# Altium footprint library Fuses.PcbLib: 86 footprints (part 2 of 6)
Each footprint in its own frame and in the unit in brackets; x right, y up, seen from the top. Pads: shape width x height; smd on the part's side, far side on the other; paste and mask are expansions set on the pad; w line width, h text height; cw(c..) or ccw(c..) is an arc to the next point about the centre after c.
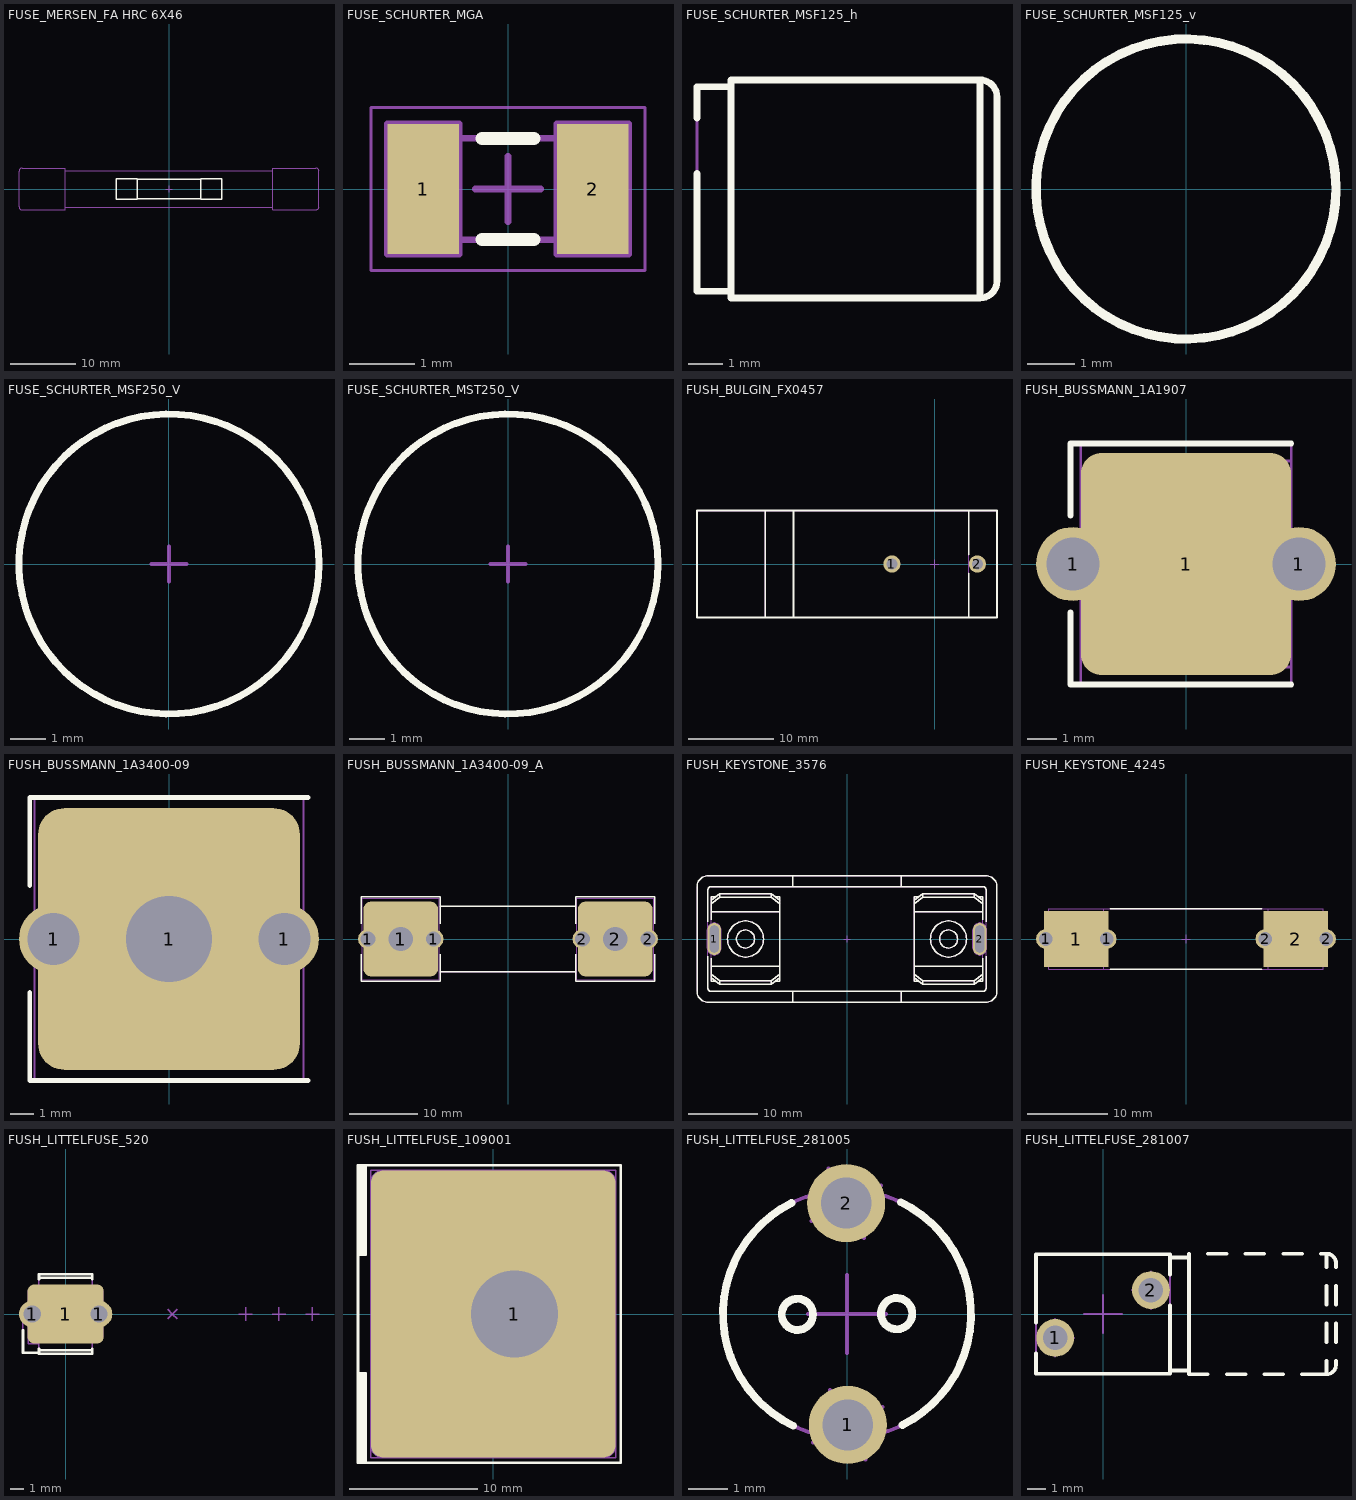
[diagram p1: the footprints below, top view; thin cyan lines are the x and y axes]

## FUSE_MERSEN_FA HRC 6X46 [mm] "6.3x46mm Cylindrical Fuse, FA HRC Series"
height 6.45
Top Overlay:
  lines w0.2: -4.85,-1.475 4.85,-1.475 ; -4.85,1.475 4.85,1.475 ; -8,-1.575 -4.85,-1.575 -4.85,1.575 -8,1.575 -8,-1.575 ; 4.85,-1.575 8,-1.575 8,1.575 4.85,1.575 4.85,-1.575
Mechanical 8:
  lines w0.1: 0,0 -0.5,0 0,0 ; 0,0 0,0.5 0,0 ; 0,0 0.5,0 0,0 ; 0,0 0,-0.5 0,0
Mechanical 14:
  lines w0.1: -15.8,-2.75 15.8,-2.75 ; -15.8,2.75 15.8,2.75 ; -22.8,-2.675 ccw(c-22.3,-2.675) -22.3,-3.175 -15.8,-3.175 -15.8,3.175 -22.3,3.175 ccw(c-22.3,2.675) -22.8,2.675 -22.8,-2.675 ; 15.8,-3.175 22.3,-3.175 ccw(c22.3,-2.675) 22.8,-2.675 22.8,2.675 ccw(c22.3,2.675) 22.3,3.175 15.8,3.175 15.8,-3.175
3D body "FUSE_MERSEN_FA HRC 6X46.stp": height 6.35, standoff 0, extent -22.8,-3.175 22.8,3.175

## FUSE_SCHURTER_MGA [mm] "SHURTER MGA Series, Body 3.2x1.55mm"
height 1.55
pads (2):
  rect 1.1x2 smd: 1(-1.3,0) 2(1.3,0)
Top Overlay:
  lines w0.2: -0.4,-0.775 0.4,-0.775 ; -0.4,0.775 0.4,0.775
Mechanical 8:
  lines w0.1: -1.8,0 -1.3,0 ; -1.3,-0.5 -1.3,0 ; -1.3,0.5 -1.3,0 ; -0.8,0 -1.3,0 ; -0.5,0 0,0 ; 0,-0.5 0,0 ; 0,0.5 0,0 ; 0.5,0 0,0 ; 0.8,0 1.3,0 ; 1.3,-0.5 1.3,0 ; 1.3,0.5 1.3,0 ; 1.8,0 1.3,0 ; -1.85,-1 -0.75,-1 -0.75,1 -1.85,1 -1.85,-1 ; 0.75,-1 1.85,-1 1.85,1 0.75,1 0.75,-1
Mechanical 14:
  lines w0.1: -1.1,-0.775 -1.1,0.775 ; 1.1,-0.775 1.1,0.775 ; -1.6,-0.775 1.6,-0.775 1.6,0.775 -1.6,0.775 -1.6,-0.775
Mechanical 15:
  lines w0.05: -2.1,-1.25 -2.1,1.25 2.1,1.25 2.1,-1.25 -2.1,-1.25
3D body "FUSE_SCHURTER_MGA.stp": height 1.55, standoff 0, extent -1.6,-0.775 1.6,0.775

## FUSE_SCHURTER_MSF125_h [mm] "SHURTER MSF 125 Series, Subminiature Fuse, 6.4 mm Diameter  x 8.8mm Height (Horizontal Mount)"
height 6.6
Top Overlay:
  lines w0.2: 3.556,0.459 3.556,-3 4.556,-3 ; 3.556,2.081 3.556,3 4.556,3 ; 11.856,-3.2 ccw(c11.856,-2.7) 12.356,-2.7 12.356,2.7 ccw(c11.856,2.7) 11.856,3.2 ; 11.856,-3.2 4.556,-3.2 4.556,3.2 11.856,3.2 ; 11.856,-3.2 11.856,3.2
Mechanical 14:
  lines w0.1: 4.556,-3 3.556,-3 3.556,3 4.556,3 ; 11.556,3.2 11.856,3.2 ; 11.856,-3.2 ccw(c11.856,-2.7) 12.356,-2.7 12.356,2.7 ccw(c11.856,2.7) 11.856,3.2 ; 11.856,-3.2 4.556,-3.2 4.556,3.2 11.856,3.2 ; 11.856,-3.2 11.856,3.2
3D body "FUSE_SCHURTER_MSF125_h.stp": height 6.63, standoff 0.23, extent -0.744,-3.2 12.356,3.2

## FUSE_SCHURTER_MSF125_v [mm] "SHURTER MSF 125 Series, Subminiature Fuse, 6.4 mm Diameter  x 8.8mm Height"
height 8.8
Top Overlay:
  circle w0.2: c0,0 r3.2
Mechanical 14:
  circle w0.1: c0,0 r3.2
3D body "FUSE_SCHURTER_MSF125_v.stp": height 15.45, standoff 2.35, extent -3.2,-3.2 3.2,3.2

## FUSE_SCHURTER_MSF250_V [mm] "Subminiature Fuse, Pitch 5.08mm, 8.5 mm Diameter  x 8.5mm Height, MSF 250 Series"
height 8.5
Top Overlay:
  circle w0.2: c0,0 r4.25
Mechanical 8:
  lines w0.1: -0.5,0 0,0 ; 0,-0.5 0,0 ; 0,0.5 0,0 ; 0.5,0 0,0
Mechanical 14:
  circle w0.1: c0,0 r4.25
3D body "FUSE_SCHURTER_MSF250.stp": height 12.85, standoff 0.9, extent -4.25,-4.25 4.25,4.25

## FUSE_SCHURTER_MST250_V [mm] "SHURTER MST 250 Series, Subminiature Fuse, 8.5mm Diameter x 8.5mm Height"
height 8.5
Top Overlay:
  circle w0.2: c0,0 r4.25
Mechanical 8:
  lines w0.1: -0.5,0 0,0 ; 0,-0.5 0,0 ; 0,0.5 0,0 ; 0.5,0 0,0
Mechanical 14:
  circle w0.1: c0,0 r4.25
3D body "FUSE_SCHURTER_MST250_v.stp": height 12.9, standoff 1.4, extent -4.25,-4.25 4.25,4.25

## FUSH_BULGIN_FX0457 [mm] "Horizontal Fuse Holder for 5x20mm Fuses, Body 35.1 x 12.5mm"
height 12.5
pads (2):
  round 2 hole 1.3: 1(-5,0) 2(5,0)
Top Overlay:
  lines w0.2: -19.8,-6.25 -19.8,6.25 ; -16.5,-6.25 -16.5,6.25 ; 4,-6.25 4,-1.118 ; 4,1.118 4,6.25 ; -27.8,-6.25 7.3,-6.25 7.3,6.25 -27.8,6.25 -27.8,-6.25
Mechanical 8:
  lines w0.1: -5.5,0 -5,0 ; -5,-0.5 -5,0 ; -5,0.5 -5,0 ; -4.5,0 -5,0 ; -0.5,0 0,0 ; 0,-0.5 0,0 ; 0,0.5 0,0 ; 0.5,0 0,0 ; 4.5,0 5,0 ; 5,-0.5 5,0 ; 5,0.5 5,0 ; 5.5,0 5,0
Mechanical 14:
  lines w0.1: -19.8,-6.25 -19.8,6.25 ; -16.5,-6.25 -16.5,6.25 ; 4,-6.25 4,6.25 ; -27.8,-6.25 7.3,-6.25 7.3,6.25 -27.8,6.25 -27.8,-6.25
3D body "FUSH_BULGIN_FX0457.stp": height 12.5, standoff -3.5, extent -27.8,-6.25 7.3,6.25

## FUSH_BUSSMANN_1A1907 [mm] "BUSSMANN 1A1907, Fuse Clip for 1/4\" (6.35)mm Diameter Fuses"
height 10.4
pads (3):
  round 2.5 hole 1.8: 1(-3.81,0) 1(3.81,0)
  rrect20% 7.1x7.5 smd: 1(0,0)
Top Overlay:
  lines w0.2: -3.9,-1.629 -3.9,-4.065 3.55,-4.065 ; -3.9,1.629 -3.9,4.065 3.55,4.065
Mechanical 8:
  lines w0.1: -4.31,0 -3.81,0 ; -3.81,-0.5 -3.81,0 ; -3.81,0.5 -3.81,0 ; -3.31,0 -3.81,0 ; -0.5,0 0,0 ; 0,-0.5 0,0 ; 0,0.5 0,0 ; 0.5,0 0,0 ; 3.31,0 3.81,0 ; 3.81,-0.5 3.81,0 ; 3.81,0.5 3.81,0 ; 4.31,0 3.81,0
Mechanical 14:
  circle w0.1: c0,0 r1.3
  lines w0.1: -3.55,-2.921 3.55,-2.921 ; -3.55,-2.645 3.55,-2.645 ; -3.55,-1.156 -2.65,-1.156 -2.65,-2.132 3.55,-2.132 ; -3.55,1.156 -2.65,1.156 -2.65,2.131 3.55,2.132 ; -3.55,2.377 -3.55,2.383 ; -3.55,2.645 3.55,2.645 ; -3.55,2.921 3.55,2.921 ; -2.65,-2.921 -2.65,-3.474 3.55,-3.474 ; -2.65,2.921 -2.65,3.474 3.55,3.474 ; -3.96,-0.762 -3.55,-0.762 cw(c-3.55,-0.956) -3.55,-1.15 -3.55,-4.065 3.55,-4.065 3.55,-1.15 cw(c3.55,-0.956) 3.55,-0.762 3.96,-0.762 3.96,0.75 3.55,0.75 cw(c3.55,0.944) 3.55,1.138 3.55,4.065 -3.55,4.065 -3.55,1.138 cw(c-3.55,0.944) -3.55,0.75 -3.96,0.75 -3.96,-0.762
3D body "FUSH_BUSSMANN_1A1907.stp": height 10.4, standoff -3.6, extent -3.96,-3.875 3.96,3.875

## FUSH_BUSSMANN_1A3400-09 [mm] "BUSSMANN 1A3400-09, Fuse holder for 10x38mm Fuses"
height 18
pads (3):
  round 2.9 hole 2.2: 1(-4.85,0) 1(4.85,0)
  rrect20% 11x11 / inner round 5.5 / far side round 5.5 hole 3.6: 1(0,0)
Top Overlay:
  lines w0.2: -5.85,-2.25 -5.85,-5.948 5.85,-5.948 ; -5.85,2.25 -5.85,5.948 5.85,5.948
Mechanical 14:
  lines w0.1: -5.65,-6 -5.65,6 5.65,6 5.65,-6 -5.65,-6
3D body "FUSH_BUSSMANN_1A3400-09.stp": height 18, standoff -3.8, extent -5.55,-5.948 5.55,5.948

## FUSH_BUSSMANN_1A3400-09_A [mm] "2 fuse clips (13/32\") to receive a 10x38mm Fuse"
height 18
pads (6):
  round 2.9 hole 2.2: 1(-20.65,0) 1(-10.95,0) 2(10.95,0) 2(20.65,0)
  rrect20% 11x11 / inner round 5.5 / far side round 5.5 hole 3.6: 1(-15.8,0) 2(15.8,0)
Top Overlay:
  lines w0.2: -21.65,-2.25 -21.65,-6.2 -9.95,-6.2 -9.95,-2.25 ; -21.65,2.25 -21.65,6.2 -9.95,6.2 -9.95,2.25 ; -9.95,-4.8 9.95,-4.8 ; -9.95,4.8 9.95,4.8 ; 9.95,-2.25 9.95,-6.2 21.65,-6.2 21.65,-2.25 ; 9.95,2.25 9.95,6.2 21.65,6.2 21.65,2.25
Mechanical 14:
  lines w0.1: -10.15,-4.8 10.15,-4.8 ; -10.15,4.8 10.15,4.8 ; -21.45,-6 -21.45,6 -10.15,6 -10.15,-6 -21.45,-6 ; 10.15,-6 10.15,6 21.45,6 21.45,-6 10.15,-6
3D body "FUSH_BUSSMANN_1A3400-09.stp": height 18, standoff -3.8, extent 10.25,-5.948 21.35,5.948
3D body "FUSH_BUSSMANN_1A3400-09.stp": height 18, standoff -3.8, extent -21.35,-5.948 -10.25,5.948

## FUSH_KEYSTONE_3576 [mm] "Fuse Holder for 10.3x38mm (5AG) Fuses, Body L 43.05 x W 18.14 x H 17.53mm"
height 17.53
pads (2):
  oval 2x4.6 hole 1.3 slot 3.9 at 90 deg: 1(-19.05,0) 2(19.05,0)
Top Overlay:
  circle w0.2: c-14.567,0 r1.295
  circle w0.2: c-14.567,0 r2.591
  circle w0.2: c14.567,0 r1.295
  circle w0.2: c14.567,0 r2.591
  lines w0.2: -19.952,-2.499 -19.952,-7.112 ccw(c-19.571,-7.112) -19.571,-7.493 19.616,-7.493 ccw(c19.565,-7.11) 19.952,-7.112 19.952,-2.499 ; -19.952,2.499 -19.952,7.112 cw(c-19.571,7.112) -19.571,7.493 19.571,7.493 cw(c19.571,7.112) 19.952,7.112 19.952,2.499 ; -19.469,-5.57 -18.279,-6.48 ; -19.469,-5.079 -18.279,-5.989 ; -19.469,-3.937 -9.665,-3.937 ; -19.469,-2.74 -19.469,-6.048 -18.844,-6.048 ; -19.469,2.74 -19.469,6.048 -18.844,6.048 ; -19.469,3.937 -9.665,3.937 ; -19.469,5.079 -18.279,5.989 ; -19.469,5.57 -18.279,6.48 ; -10.29,-6.048 -9.665,-6.048 -9.665,6.048 -10.29,6.048 ; -9.665,-5.57 -10.855,-6.48 ; -9.665,-5.079 -10.855,-5.989 ; -9.665,5.079 -10.855,5.989 ; -9.665,5.57 -10.855,6.48 ; -7.81,-9.068 -7.81,-7.493 ; -7.81,7.493 -7.81,9.068 ; 7.81,-9.068 7.81,-7.493 ; 7.81,7.493 7.81,9.068 ; 9.665,-5.57 10.855,-6.48 ; 9.665,-5.079 10.855,-5.989 ; 9.665,-3.937 19.469,-3.937 ; 9.665,3.937 19.469,3.937 ; 9.665,5.079 10.855,5.989 ; 9.665,5.57 10.855,6.48 ; 10.29,-6.048 9.665,-6.048 9.665,6.048 10.29,6.048 ; 18.844,-6.048 19.469,-6.048 19.469,-2.74 ; 18.844,6.048 19.469,6.048 19.469,2.74 ; 19.469,-5.57 18.279,-6.48 ; 19.469,-5.079 18.279,-5.989 ; 19.469,5.079 18.279,5.989 ; 19.469,5.57 18.279,6.48 ; -18.279,-6.48 -10.855,-6.48 ; -18.279,-6.48 -18.279,-5.989 ; -18.279,-5.989 -10.855,-5.989 ; -18.279,5.989 -10.855,5.989 ; -18.279,5.989 -18.279,6.48 ; -18.279,6.48 -10.855,6.48 ; -10.855,-6.48 -10.855,-5.989 ; -10.855,5.989 -10.855,6.48 ; 10.855,-6.48 18.279,-6.48 ; 10.855,-6.48 10.855,-5.989 ; 10.855,-5.989 18.279,-5.989 ; 10.855,5.989 18.279,5.989 ; 10.855,5.989 10.855,6.48 ; 10.855,6.48 18.279,6.48 ; 18.279,-6.48 18.279,-5.989 ; 18.279,5.989 18.279,6.48 ; -21.526,-7.493 ccw(c-19.952,-7.493) -19.952,-9.068 19.952,-9.068 ccw(c19.952,-7.493) 21.526,-7.493 21.526,7.493 ccw(c19.952,7.493) 19.952,9.068 -19.952,9.068 ccw(c-19.952,7.493) -21.526,7.493 -21.526,-7.493
Mechanical 8:
  lines w0.1: -19.55,0 -19.05,0 ; -19.05,-1.3 -19.05,0 ; -19.05,1.3 -19.05,0 ; -18.55,0 -19.05,0 ; -0.5,0 0,0 ; 0,-0.5 0,0 ; 0,0.5 0,0 ; 0.5,0 0,0 ; 18.55,0 19.05,0 ; 19.05,-1.3 19.05,0 ; 19.05,1.3 19.05,0 ; 19.55,0 19.05,0 ; -20.05,-1.3 ccw(c-19.05,-1.3) -18.05,-1.3 -18.05,1.3 ccw(c-19.05,1.3) -20.05,1.3 -20.05,-1.3 ; -19.7,-1.3 ccw(c-19.05,-1.3) -18.4,-1.3 -18.4,1.3 ccw(c-19.05,1.3) -19.7,1.3 -19.7,-1.3 ; -19.431,-1.587 -18.669,-1.587 -18.669,1.587 -19.431,1.587 -19.431,-1.587 ; 18.05,-1.3 ccw(c19.05,-1.3) 20.05,-1.3 20.05,1.3 ccw(c19.05,1.3) 18.05,1.3 18.05,-1.3 ; 18.4,-1.3 ccw(c19.05,-1.3) 19.7,-1.3 19.7,1.3 ccw(c19.05,1.3) 18.4,1.3 18.4,-1.3 ; 18.415,-1.775 18.415,1.775 19.685,1.775 19.685,-1.775 18.415,-1.775 ; 18.669,-1.587 19.431,-1.587 19.431,1.587 18.669,1.587 18.669,-1.587
Mechanical 14:
  circle w0.1: c-14.567,0 r1.295
  circle w0.1: c-14.567,0 r2.591
  circle w0.1: c14.567,0 r1.295
  circle w0.1: c14.567,0 r2.591
  lines w0.1: -19.469,-5.57 -18.279,-6.48 ; -19.469,-5.079 -18.279,-5.989 ; -19.469,-3.937 -9.665,-3.937 ; -19.469,3.937 -9.665,3.937 ; -19.469,5.079 -18.279,5.989 ; -19.469,5.57 -18.279,6.48 ; -18.844,-6.048 -19.469,-6.048 -19.469,6.048 -18.844,6.048 ; -10.29,-6.048 -9.665,-6.048 -9.665,6.048 -10.29,6.048 ; -9.665,-5.57 -10.855,-6.48 ; -9.665,-5.079 -10.855,-5.989 ; -9.665,5.079 -10.855,5.989 ; -9.665,5.57 -10.855,6.48 ; -7.81,-9.068 -7.81,-7.493 ; -7.81,7.493 -7.81,9.068 ; 7.81,-9.068 7.81,-7.493 ; 7.81,7.493 7.81,9.068 ; 9.665,-5.57 10.855,-6.48 ; 9.665,-5.079 10.855,-5.989 ; 9.665,-3.937 19.469,-3.937 ; 9.665,3.937 19.469,3.937 ; 9.665,5.079 10.855,5.989 ; 9.665,5.57 10.855,6.48 ; 10.29,-6.048 9.665,-6.048 9.665,6.048 10.29,6.048 ; 18.844,-6.048 19.469,-6.048 19.469,6.048 18.844,6.048 ; 19.469,-5.57 18.279,-6.48 ; 19.469,-5.079 18.279,-5.989 ; 19.469,5.079 18.279,5.989 ; 19.469,5.57 18.279,6.48 ; -18.279,-6.48 -10.855,-6.48 ; -18.279,-6.48 -18.279,-5.989 ; -18.279,-5.989 -10.855,-5.989 ; -18.279,5.989 -10.855,5.989 ; -18.279,5.989 -18.279,6.48 ; -18.279,6.48 -10.855,6.48 ; -10.855,-6.48 -10.855,-5.989 ; -10.855,5.989 -10.855,6.48 ; 10.855,-6.48 18.279,-6.48 ; 10.855,-6.48 10.855,-5.989 ; 10.855,-5.989 18.279,-5.989 ; 10.855,5.989 18.279,5.989 ; 10.855,5.989 10.855,6.48 ; 10.855,6.48 18.279,6.48 ; 18.279,-6.48 18.279,-5.989 ; 18.279,5.989 18.279,6.48 ; -21.526,-7.493 ccw(c-19.952,-7.493) -19.952,-9.068 19.952,-9.068 ccw(c19.952,-7.493) 21.526,-7.493 21.526,7.493 ccw(c19.952,7.493) 19.952,9.068 -19.952,9.068 ccw(c-19.952,7.493) -21.526,7.493 -21.526,-7.493 ; -19.952,-7.112 ccw(c-19.571,-7.112) -19.571,-7.493 19.616,-7.493 ccw(c19.565,-7.11) 19.952,-7.112 19.952,7.112 ccw(c19.571,7.112) 19.571,7.493 -19.571,7.493 ccw(c-19.571,7.112) -19.952,7.112 -19.952,-7.112
3D body "FUSH_KEYSTONE_3576.stp": height 17.53, standoff -4.01, extent -21.526,-9.068 21.527,9.068

## FUSH_KEYSTONE_4245 [mm] "KEYSTONE 4245, Fuse holder for 6..3x32mm Fuses"
height 10.92
pads (6):
  round 2.4 hole 1.7: 1(-17.463,0) 1(-9.843,0) 2(9.843,0) 2(17.463,0)
  rect 8x7 smd paste-4 mask-4: 1(-13.653,0) 2(13.653,0)
Top Overlay:
  lines w0.2: -9.4,-3.75 9.4,-3.75 ; -9.4,3.75 9.4,3.75
Mechanical 8:
  lines w0.1: -17.963,0 -17.463,0 ; -17.463,-0.5 -17.463,0 ; -17.463,0.5 -17.463,0 ; -16.963,0 -17.463,0 ; -10.343,0 -9.843,0 ; -9.843,-0.5 -9.843,0 ; -9.843,0.5 -9.843,0 ; -9.343,0 -9.843,0 ; -0.5,0 0,0 ; 0,-0.5 0,0 ; 0,0.5 0,0 ; 0.5,0 0,0 ; 9.343,0 9.843,0 ; 9.843,-0.5 9.843,0 ; 9.843,0.5 9.843,0 ; 10.343,0 9.843,0 ; 16.963,0 17.463,0 ; 17.463,-0.5 17.463,0 ; 17.463,0.5 17.463,0 ; 17.963,0 17.463,0
Mechanical 14:
  lines w0.1: -10.205,-3.75 -10.205,3.75 ; 10.205,-3.75 10.205,3.75 ; -17.1,-3.75 -17.1,3.75 17.1,3.75 17.1,-3.75 -17.1,-3.75
3D body "FUSH_KEYSTONE_4245.stp": height 12.87, standoff -3.7, extent -17.716,-3.824 17.717,3.824

## FUSH_LITTELFUSE_520 [mm] "Horizontal Fuse Holder For 6.4x8.8mm Subminiature Fuses"
height 10
pads (3):
  round 2 hole 1.3: 1(-2.5,0) 1(2.5,0)
  rrect20% 5.7x4.4 smd paste-2.2 mask-2.2: 1(0,0)
Top Overlay:
  lines w0.2: -3.2,-1.212 -3.2,-2.9 -2,-2.9 ; -2,-2.727 2,-2.727 ; -2,-2.6 -2,-2.978 2,-2.978 2,-2.6 ; -2,2.6 -2,2.978 2,2.978 2,2.6 ; -2,2.727 2,2.727
Mechanical 8:
  lines w0.1: -3,0 -2.5,0 ; -2.5,-0.5 -2.5,0 ; -2.5,0.5 -2.5,0 ; -2,0 -2.5,0 ; -0.5,0 0,0 ; 0,-0.5 0,0 ; 0,0.5 0,0 ; 0.5,0 0,0 ; 2,0 2.5,0 ; 2.5,-0.5 2.5,0 ; 2.5,0.5 2.5,0 ; 3,0 2.5,0 ; 7.646,-0.354 8,0 ; 7.646,0.354 8,0 ; 8.354,-0.354 8,0 ; 8.354,0.354 8,0 ; 13,0 13.5,0 ; 13.5,-0.5 13.5,0 ; 13.5,0.5 13.5,0 ; 14,0 13.5,0 ; 15.5,0 16,0 ; 16,-0.5 16,0 ; 16,0.5 16,0 ; 16.5,0 16,0 ; 18,0 18.5,0 ; 18.5,-0.5 18.5,0 ; 18.5,0.5 18.5,0 ; 19,0 18.5,0
Mechanical 14:
  lines w0.1: -2.8,-1.741 2.8,-1.741 2.8,1.741 -2.8,1.741 -2.8,-2.247 -2,-2.247 ; -2.8,0 -3.2,0 -3.2,-2.9 -2,-2.9 ; -2,-2.727 2,-2.727 ; -2,-1.741 -2,-2.978 2,-2.978 2,-1.741 ; -2,1.741 -2,2.978 2,2.978 2,1.741 ; -2,2.727 2,2.727
3D body "FUSH_LITTELFUSE_520.stp": height 10, standoff -3.5, extent -3.2,-2.978 2.8,2.978

## FUSH_LITTELFUSE_109001 [mm] "Rivet/Eyelet Mount Fuse Clips for 20.6mm (0.81\" or 13/16\") Diameter Fuses"
height 33.27
pads (1):
  rrect10% 19.05x22.35 hole 6.8 copper offset -1.655,0: 1(1.655,0)
Top Overlay:
  lines w0.2: -10.325,-11.575 -10.325,-4.618 ; -10.325,4.618 -10.325,11.575 ; -10.125,-11.575 -10.125,-4.618 ; -10.125,4.618 -10.125,11.575 ; -9.925,-11.575 -9.925,-4.618 -10.525,-4.618 -10.525,-11.575 ; -9.925,11.575 -9.925,4.618 -10.525,4.618 -10.525,11.575 ; -10.525,-11.575 -10.525,11.575 ; -10.525,-11.575 9.925,-11.575 9.925,11.575 -10.525,11.575
Mechanical 8:
  lines w0.1: -0.5,0 0,0 ; 0,-0.5 0,0 ; 0,0.5 0,0 ; 0.5,0 0,0 ; 1.301,-0.354 1.655,0 ; 1.301,0.354 1.655,0 ; 2.009,-0.354 1.655,0 ; 2.009,0.354 1.655,0 ; -9.525,-10.175 ccw(c-8.525,-10.175) -8.525,-11.175 8.525,-11.175 ccw(c8.525,-10.175) 9.525,-10.175 9.525,10.175 ccw(c8.525,10.175) 8.525,11.175 -8.525,11.175 ccw(c-8.525,10.175) -9.525,10.175 -9.525,-10.175
Mechanical 14:
  circle w0.1: c1.655,0 r3.365
  lines w0.1: -9.525,-4.618 -7.025,-4.618 -7.025,-8.209 9.506,-8.209 ; -9.525,4.618 -7.025,4.618 -7.025,8.209 9.506,8.209 ; -9.525,-11.175 -9.525,11.175 9.525,11.175 9.525,-11.175 -9.525,-11.175
3D body "FUSH_LITTELFUSE_109001.stp": height 31.8, standoff 0, extent -9.525,-11.874 9.525,11.874

## FUSH_LITTELFUSE_281005 [mm] "Vertical Fuse Holder For 6.4x8.8mm Subminiature Fuses"
height 6.65
pads (2):
  round 2 hole 1.3: 1(0.022,-2.84) 2(-0.022,2.84)
Top Overlay:
  circle w0.2: c-1.27,-0.01 r0.4
  circle w0.2: c1.27,0.01 r0.4
  lines w0.2: -1.422,2.839 ccw(c0,0) -1.378,-2.86 ; 1.378,2.86 cw(c0,0) 1.422,-2.839
Mechanical 8:
  lines w0.1: -1,0 0,0 ; -0.913,2.386 -0.022,2.84 ; -0.869,-3.294 0.022,-2.84 ; -0.476,3.731 -0.022,2.84 ; -0.432,-1.949 0.022,-2.84 ; 0,-1 0,0 ; 0,1 0,0 ; 0.432,1.949 -0.022,2.84 ; 0.476,-3.731 0.022,-2.84 ; 0.869,3.294 -0.022,2.84 ; 0.913,-2.386 0.022,-2.84 ; 1,0 0,0
Mechanical 14:
  circle w0.1: c-1.27,-0.01 r0.4
  circle w0.1: c1.27,0.01 r0.4
  lines w0.1: -0.456,3.142 ccw(c0,0) -0.089,-3.174 ; 0.089,3.174 cw(c0,0) 0.456,-3.142 ; -0.508,3.243 -0.062,3.47 0.465,2.436 0.019,2.209 -0.508,3.243 ; -0.465,-2.436 0.062,-3.47 0.508,-3.243 -0.019,-2.209 -0.465,-2.436
3D body "FUSH_LITTELFUSE_281005.stp": height 6.65, standoff -5.08, extent -3.167,-3.47 3.167,3.47

## FUSH_LITTELFUSE_281007 [mm] "Horizontal Fuse Holder For 6.4x8.8mm Subminiature Fuses"
height 6.6
pads (2):
  round 2 hole 1.3: 1(-2.54,-1.27) 2(2.54,1.27)
Top Overlay:
  lines w0.2: -3.556,-2.081 -3.556,-3.175 3.556,-3.175 3.556,0.459 ; -3.556,-0.459 -3.556,3.175 3.556,3.175 3.556,2.081 ; 3.556,-3 4.556,-3 ; 3.556,3 4.556,3 ; 4.556,3.2 4.556,-3.2 5.556,-3.2 ; 5.556,3.2 6.556,3.2 ; 6.556,-3.2 7.556,-3.2 ; 7.556,3.2 8.556,3.2 ; 8.556,-3.2 9.556,-3.2 ; 9.556,3.2 10.556,3.2 ; 10.556,-3.2 11.856,-3.2 ; 11.556,3.2 11.856,3.2 ; 11.856,-2.5 11.856,-3.2 ; 11.856,-1.5 11.856,-0.5 ; 11.856,0.5 11.856,1.5 ; 11.856,2.5 11.856,3.2 ; 12.356,-2.5 12.356,-2.7 cw(c11.856,-2.7) 11.856,-3.2 ; 12.356,-1.5 12.356,-0.5 ; 12.356,0.5 12.356,1.5 ; 12.356,2.5 12.356,2.7 ccw(c11.856,2.7) 11.856,3.2
Mechanical 8:
  lines w0.1: -3.54,-1.27 -2.54,-1.27 ; -2.54,-2.27 -2.54,-1.27 ; -2.54,-0.27 -2.54,-1.27 ; -1.54,-1.27 -2.54,-1.27 ; -1,0 0,0 ; 0,-1 0,0 ; 0,1 0,0 ; 1,0 0,0 ; 1.54,1.27 2.54,1.27 ; 2.54,0.27 2.54,1.27 ; 2.54,2.27 2.54,1.27 ; 3.54,1.27 2.54,1.27
Mechanical 14:
  lines w0.1: 3.556,-3 4.556,-3 ; 3.556,3 4.556,3 ; 4.556,3.2 4.556,-3.2 5.556,-3.2 ; 5.556,3.2 6.556,3.2 ; 6.556,-3.2 7.556,-3.2 ; 7.556,3.2 8.556,3.2 ; 8.556,-3.2 9.556,-3.2 ; 9.556,3.2 10.556,3.2 ; 10.556,-3.2 11.856,-3.2 ; 11.556,3.2 11.856,3.2 ; 11.856,-2.5 11.856,-3.2 ; 11.856,-1.5 11.856,-0.5 ; 11.856,0.5 11.856,1.5 ; 11.856,2.5 11.856,3.2 ; 12.356,-2.5 12.356,-2.7 cw(c11.856,-2.7) 11.856,-3.2 ; 12.356,-1.5 12.356,-0.5 ; 12.356,0.5 12.356,1.5 ; 12.356,2.5 12.356,2.7 ccw(c11.856,2.7) 11.856,3.2 ; -3.556,-3.175 3.556,-3.175 3.556,3.175 -3.556,3.175 -3.556,-3.175
3D body "FUSH_LITTELFUSE_281007.stp": height 6.6, standoff -5.08, extent -3.556,-3.175 3.556,3.175